# Altium footprint library Connectors.PcbLib: 24 footprints (part 2 of 2)
Each footprint in its own frame and in the unit in brackets; x right, y up, seen from the top. Pads: shape width x height; smd on the part's side, far side on the other; paste and mask are expansions set on the pad; w line width, h text height; cw(c..) or ccw(c..) is an arc to the next point about the centre after c.
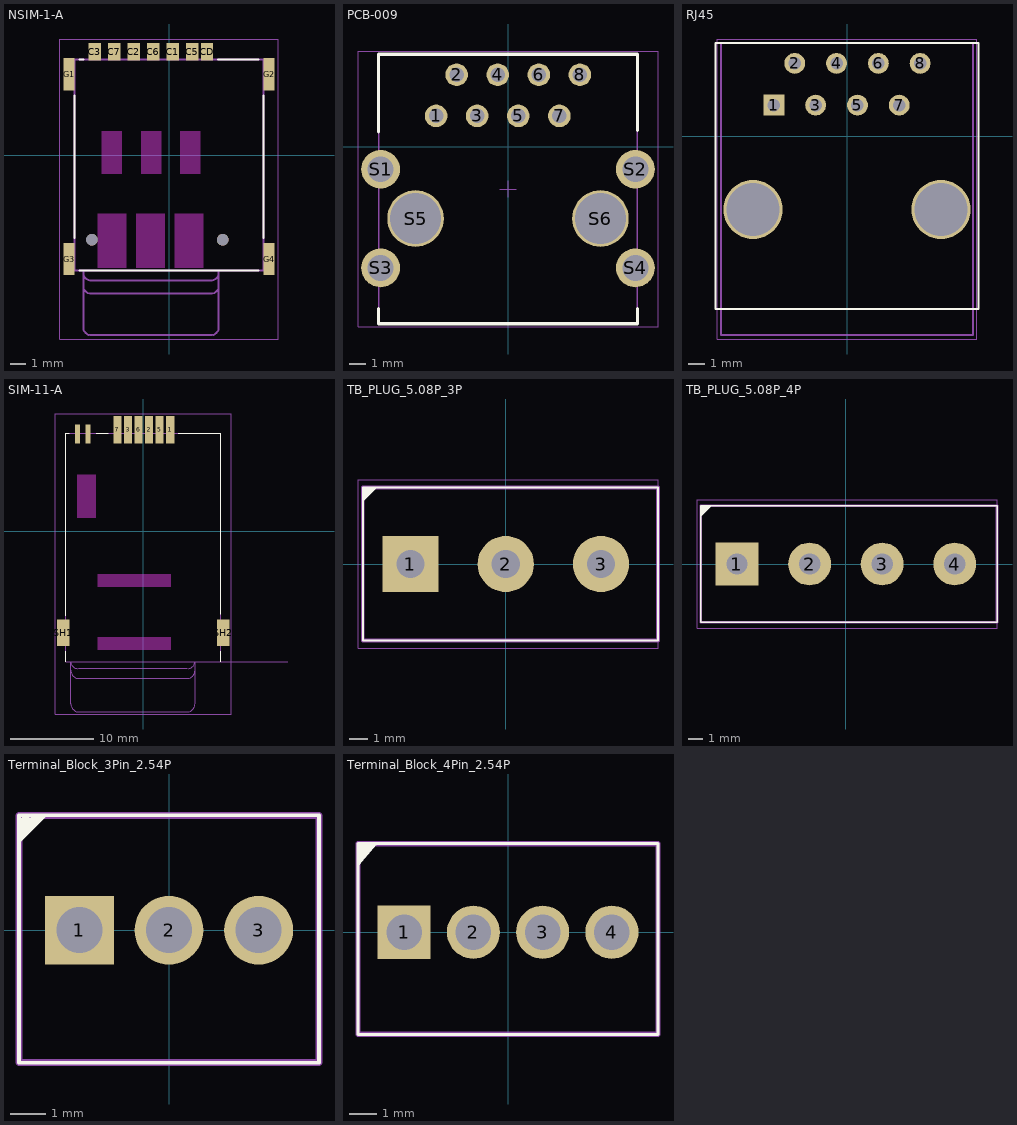
[diagram p1: the footprints below, top view; thin cyan lines are the x and y axes]

## NSIM-1-A [mm] "7 (6 + 1) Position Card Connector NANO SIM Surface Mount, Right Angle Gold"
pads (13):
  rect 0.8x1.14 smd: C1(0.25,6.74) C2(-2.29,6.74) C3(-4.83,6.74) C5(1.52,6.74) C6(-1.02,6.74) C7(-3.56,6.74) CD(2.47,6.74)
  rect 0.7x2.1 smd: G1(-6.5,5.26) G2(6.5,5.26) G3(-6.5,-6.74) G4(6.5,-6.74)
  round 0.75 hole 0.75 unplated: ""(-5.01,-5.49) ""(3.49,-5.49)
Top Overlay:
  lines w0.127: -6.145,-5.37 -6.145,3.89 ; -5.83,-7.49 5.83,-7.49 ; -5.83,6.23 -5.55,6.23 ; 3.19,6.23 5.83,6.23 ; 6.145,-5.37 6.145,3.89
Keep-Out Layer:
  region: 2.215,-7.3 0.365,-7.3 0.365,-3.8 2.215,-3.8
  region: -0.285,-7.3 -2.135,-7.3 -2.135,-3.8 -0.285,-3.8
  region: -2.785,-7.3 -4.635,-7.3 -4.635,-3.8 -2.785,-3.8
  region: 2.02,-1.195 0.72,-1.195 0.72,1.555 2.02,1.555
  region: -0.52,-1.195 -1.82,-1.195 -1.82,1.555 -0.52,1.555
  region: -3.06,-1.195 -4.36,-1.195 -4.36,1.555 -3.06,1.555
Mechanical 13:
  lines w0.127: -5.57,-8.49 ccw(c-5.07,-8.49) -5.07,-8.99 2.73,-8.99 ccw(c2.73,-8.49) 3.23,-8.49 ; -5.57,-7.64 ccw(c-5.07,-7.64) -5.07,-8.14 2.73,-8.14 ccw(c2.73,-7.64) 3.23,-7.64 ; -5.57,-7.49 -5.57,-11.19 ccw(c-5.07,-11.19) -5.07,-11.69 2.73,-11.69 ccw(c2.73,-11.19) 3.23,-11.19 3.23,-7.49 ; -5.57,-7.49 -6.145,-7.49 -6.145,6.23 6.145,6.23 6.145,-7.49 3.23,-7.49 ; -5.57,-7.49 3.23,-7.49
Mechanical 15:
  lines w0.05: -7.1,-11.94 -7.1,7.56 7.1,7.56 7.1,-11.94 -7.1,-11.94
3D body "Same_Sky_NSIM-1-A.step": height 1.38, standoff -0.39, extent -6.545,-7.5 6.545,7.08

## PCB-009 [mm]
pads (14):
  round 1.4 hole 0.9: 1(-4.445,1.905) 2(-3.175,4.445) 3(-1.905,1.905) 4(-0.635,4.445) 5(0.635,1.905) 6(1.905,4.445) 7(3.175,1.905) 8(4.445,4.445)
  round 2.4 hole 1.6: S1(-7.875,-1.395) S2(7.875,-1.395) S3(-7.875,-7.495) S4(7.875,-7.495)
  round 3.5 hole 3.17: S5(-5.715,-4.445) S6(5.715,-4.445)
Top Overlay:
  lines w0.2: -8,-10 -8,-10.944 8,-10.944 8,-10 ; -8,0.9 -8,5.706 8,5.706 8,1
Top Courtyard:
  lines w0.05: -9.275,-11.144 -9.275,5.906 9.275,5.906 9.275,-11.144 -9.275,-11.144
Top Component Outline:
  lines w0.1: -8,-10.944 8,-10.944 8,5.706 -8,5.706 -8,-10.944
Top Component Center:
  lines w0.05: -0.5,-2.619 0.5,-2.619 ; 0,-3.119 0,-2.119
3D body "615008140421 (rev1).stp": height 16.65, standoff -3.55, extent -8,-10.944 8,5.706

## RJ45 [mm]
pads (10):
  rect 1.268x1.268 / inner round 1.268 / far side rect 1.268x1.268 hole 0.76: 1(-4.445,1.905)
  round 1.268 hole 0.76: 2(-3.175,4.445) 3(-1.905,1.905) 4(-0.635,4.445) 5(0.635,1.905) 6(1.905,4.445) 7(3.175,1.905) 8(4.445,4.445)
  round 3.6 hole 3.2 unplated: ""(-5.715,-4.445) ""(5.715,-4.445)
Top Overlay:
  lines w0.127: -8,-10.5 -8,5.675 8,5.675 8,-10.5 -8,-10.5
Mechanical 13:
  lines w0.127: -7.65,-12.065 -7.65,5.675 7.65,5.675 7.65,-12.065 -7.65,-12.065
Mechanical 15:
  lines w0.05: -7.9,-12.315 -7.9,5.925 7.9,5.925 7.9,-12.315 -7.9,-12.315
3D body "step_temp.STEP": height 12.95, standoff -3.25, extent -7.65,-12.065 7.65,5.675

## SIM-11-A [mm] "8 (6 + 2) Position Card Connector SIM Card Surface Mount, Right Angle Gold"
pads (10):
  rect 1x3.3 smd: 1(3.24,12.25) 2(0.7,12.25) 3(-1.84,12.25) 5(1.97,12.25) 6(-0.57,12.25) 7(-3.11,12.25)
  rect 0.6x2.3 smd: CD1(-7.95,11.75) CD2(-6.66,11.75)
  rect 1.5x3.2 smd: SH1(-9.64,-12.25) SH2(9.64,-12.25)
Top Overlay:
  lines w0.127: -9.35,-15.75 -9.35,-14.45 ; -9.35,-10.2 -9.35,11.8 -8.95,11.8 ; -5.7,11.8 -4.2,11.8 ; 4.2,11.8 9.35,11.8 9.35,-10 ; 9.35,-15.75 9.35,-14.45
Keep-Out Layer:
  region: 3.32,-14.28 -5.5,-14.28 -5.5,-12.78 3.32,-12.78
  region: -5.75,1.65 -7.95,1.65 -7.95,6.85 -5.75,6.85
  region: 3.32,-6.68 -5.5,-6.68 -5.5,-5.18 3.32,-5.18
Mechanical 13:
  lines w0.127: -8.751,-15.745 ccw(c-7.85,-15.65) -7.755,-16.551 ; -7.75,-16.55 5.25,-16.55 ; 5.255,-16.551 ccw(c5.35,-15.65) 6.251,-15.745 ; 17.45,-15.75 9.35,-15.75 ; -8.75,-16.75 ccw(c-7.75,-16.75) -7.75,-17.75 5.25,-17.75 ccw(c5.25,-16.75) 6.25,-16.75 ; -8.75,-16.75 -8.75,-15.75 ; -8.75,-16.75 -8.75,-20.79 ccw(c-7.75,-20.79) -7.75,-21.79 5.25,-21.79 ccw(c5.25,-20.79) 6.25,-20.79 6.25,-16.75 ; -8.75,-15.75 -9.35,-15.75 -9.35,11.8 9.35,11.8 9.35,-15.75 ; -8.75,-15.75 6.25,-15.75 ; 6.25,-16.75 6.25,-15.75 ; 6.25,-15.75 9.35,-15.75
  text "PCB Edge" at 10.8,-15.5 h1
Mechanical 15:
  lines w0.05: -10.64,-22.04 -10.64,14.15 10.64,14.15 10.64,-22.04 -10.64,-22.04
3D body "Same_Sky_SIM-11-A.step": height 1.95, standoff 0, extent -10.2,-15.8 10.2,12.25

## TB_PLUG_5.08P_3P [mm]
pads (3):
  rect 3x3 hole 1.5: 1(-5.08,0)
  round 3 hole 1.5: 2(0,0) 3(5.08,0)
Top Overlay:
  lines w0.1: -7.621,3.377 -6.934,4.064 -7.214,4.064 -7.62,3.658 -7.62,3.505 ; -7.587,3.953 -7.595,3.945 ; -7.094,3.937 -7.094,4.048 -7.122,4.021 -7.122,3.965 -7.571,3.516 -7.571,3.583 -7.161,3.993 -7.368,3.993 -7.603,3.758 -7.603,3.834 -7.404,4.033 -7.507,4.033 -7.595,3.945 ; -7.595,3.945 -7.595,3.945 ; -7.62,-4.075 8.12,-4.075 8.12,4.075 -7.62,4.075 -7.62,-4.075
Mechanical 13:
  lines w0.2: -7.62,-4.075 8.12,-4.075 8.12,4.075 -7.62,4.075 -7.62,-4.075
Mechanical 15:
  lines w0.05: -7.88,-4.5 -7.88,4.5 8.12,4.5 8.12,-4.5 -7.88,-4.5
3D body "1146340000.stp": height 12.2, standoff -3, extent -7.52,-3.75 7.52,4.68

## TB_PLUG_5.08P_4P [mm]
pads (4):
  rect 3x3 hole 1.5: 1(-7.62,0)
  round 3 hole 1.5: 2(-2.54,0) 3(2.54,0) 4(7.62,0)
Top Overlay:
  lines w0.1: -10.161,3.377 -9.474,4.064 -9.754,4.064 -10.16,3.658 -10.16,3.505 ; -10.127,3.953 -10.135,3.945 ; -9.634,3.937 -9.634,4.048 -9.662,4.021 -9.662,3.965 -10.111,3.516 -10.111,3.583 -9.701,3.993 -9.908,3.993 -10.143,3.758 -10.143,3.834 -9.944,4.033 -10.047,4.033 -10.135,3.945 ; -10.135,3.945 -10.135,3.945 ; -10.16,-4.075 -10.16,4.075 10.58,4.075 10.58,-4.075 -10.16,-4.075
Mechanical 13:
  lines w0.2: -10.16,-4.075 -10.16,4.075 10.58,4.075 10.58,-4.075 -10.16,-4.075
Mechanical 15:
  lines w0.05: -10.42,-4.5 10.58,-4.5 10.58,4.5 -10.42,4.5 -10.42,-4.5
3D body "1146380000.stp": height 12.2, standoff -3, extent -9.978,-3.775 10.142,4.655

## Terminal_Block_3Pin_2.54P [mm]
pads (3):
  rect 1.95x1.95 hole 1.3: 1(-2.54,0)
  round 1.95 hole 1.3: 2(0,0) 3(2.54,0)
Top Overlay:
  lines w0.1: -4.234,2.53 -3.546,3.217 -3.826,3.217 -4.232,2.811 -4.232,2.658 ; -4.199,3.106 -4.207,3.098 ; -3.706,3.09 -3.706,3.202 -3.734,3.174 -3.734,3.118 -4.183,2.669 -4.183,2.737 -3.774,3.146 -3.98,3.146 -4.215,2.912 -4.215,2.987 -4.016,3.186 -4.119,3.186 -4.207,3.098 ; -4.207,3.098 -4.207,3.098 ; -4.25,-3.75 -4.25,3.25 4.25,3.25 4.25,-3.75 -4.25,-3.75
Mechanical 13:
  lines w0.2: -4.25,-3.75 -4.25,3.25 4.25,3.25 4.25,-3.75 -4.25,-3.75
Mechanical 15:
  lines w0.1: -4.25,-3.75 4.25,-3.75 4.25,3.25 -4.25,3.25 -4.25,-3.75
3D body "KF128-2.54-3P.step": height 8.5, standoff -3.75, extent -4.01,-3.5 4.01,3

## Terminal_Block_4Pin_2.54P [mm]
pads (4):
  rect 1.95x1.95 hole 1.3: 1(-3.81,0)
  round 1.95 hole 1.3: 2(-1.27,0) 3(1.27,0) 4(3.81,0)
Top Overlay:
  lines w0.1: -5.479,3.095 -5.371,3.236 -5.199,3.238 -5.49,2.856 -5.312,3.21 -5.461,3.032 -5.061,3.243 -5.488,2.726 -5.039,3.229 -4.92,3.229 -5.481,2.6 -5.485,2.493 -4.861,3.227 ; -5.216,3.12 -5.129,3.208 -5.025,3.208 ; -5.5,-3.75 -5.5,3.25 5.5,3.25 5.5,-3.75 -5.5,-3.75
Mechanical 13:
  lines w0.2: -5.5,-3.75 -5.5,3.25 5.5,3.25 5.5,-3.75 -5.5,-3.75
Mechanical 15:
  lines w0.1: -5.5,-3.75 -5.5,3.25 5.5,3.25 5.5,-3.75 -5.5,-3.75
3D body "KF128-2.54-4P.step": height 8.5, standoff -3.75, extent -5.256,-3.591 5.304,2.909